# EAGLE library part CK1052_4X3 (library #PaJa_prepinace)
Otocny prepinac 4 x 3
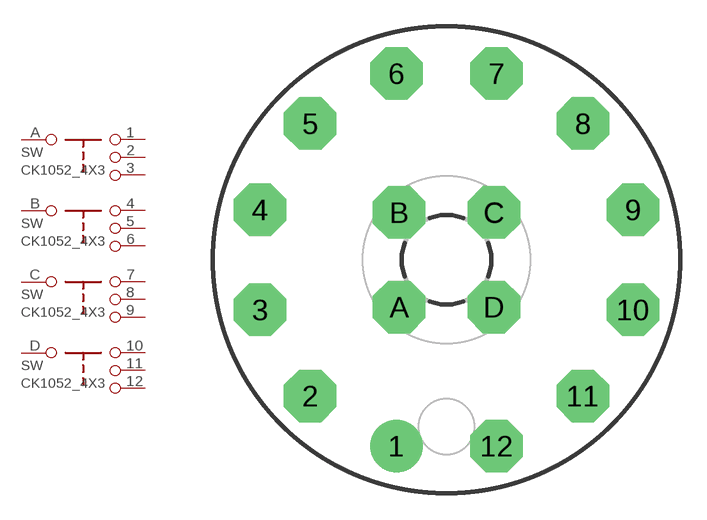
[diagram p1: symbol with the pads of SWITCH4X3; footprint SWITCH4X3]

Designator prefix SW; gates A=CK_3X B=CK_3X C=CK_3X D=CK_3X

## CK1052_4X3  [SWITCH4X3]
1  A:1  pas
2  A:2  pas
3  A:3  pas
4  B:1  pas
5  B:2  pas
6  B:3  pas
7  C:1  pas
8  C:2  pas
9  C:3  pas
10  D:1  pas
11  D:2  pas
12  D:3  pas
A  A:A  pas
B  B:A  pas
C  C:A  pas
D  D:A  pas

## Footprint SWITCH4X3 (pad centres in mm)
drill 1.5 pad 3 round: 1 -2.857,-10.636
drill 1.5 pad 3 octagon: 2 -7.779,-7.779; 3 -10.636,-2.857; 4 -10.636,2.857; 5 -7.779,7.779; 6 -2.857,10.636; 7 2.857,10.636; 8 7.779,7.779; 9 10.636,2.857; 10 10.636,-2.857; 11 7.779,-7.779; 12 2.857,-10.636; A -2.699,-2.699; B -2.699,2.699; C 2.699,2.699; D 2.699,-2.699